# EAGLE library part PH_S6B-PH (library CASE-JST)
JST PH Connector, through hole, 6 pin, side entry Description: JST PH connector with 2.0 mm pitch, through hole version, 6 pin, side entry. Links: Datasheet <http://www.jst-mfg.com/product/pdf/eng/ePH.pdf>
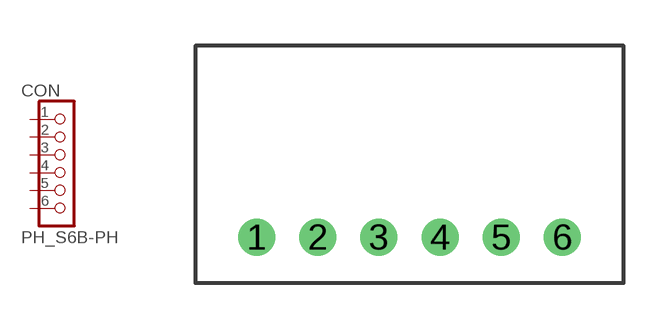
[diagram p0: symbol with the pads of S6B-PH; footprint S6B-PH]

Designator prefix CON

## PH_S6B-PH  [S6B-PH]
1  1  pas
2  2  pas
3  3  pas
4  4  pas
5  5  pas
6  6  pas

## Footprint S6B-PH (pad centres in mm)
JST S6B-PH Datasheet <http://www.jst-mfg.com/product/pdf/eng/ePH.pdf>
drill 0.7: 1 -5,0; 2 -3,0; 3 -1,0; 4 1,0; 5 3,0; 6 5,0